# Altium schematic symbol library MCU_NXP_ColdFire.SchLib: 6 symbols
Pins are listed as number, name and electrical type; pins without a type are passive.

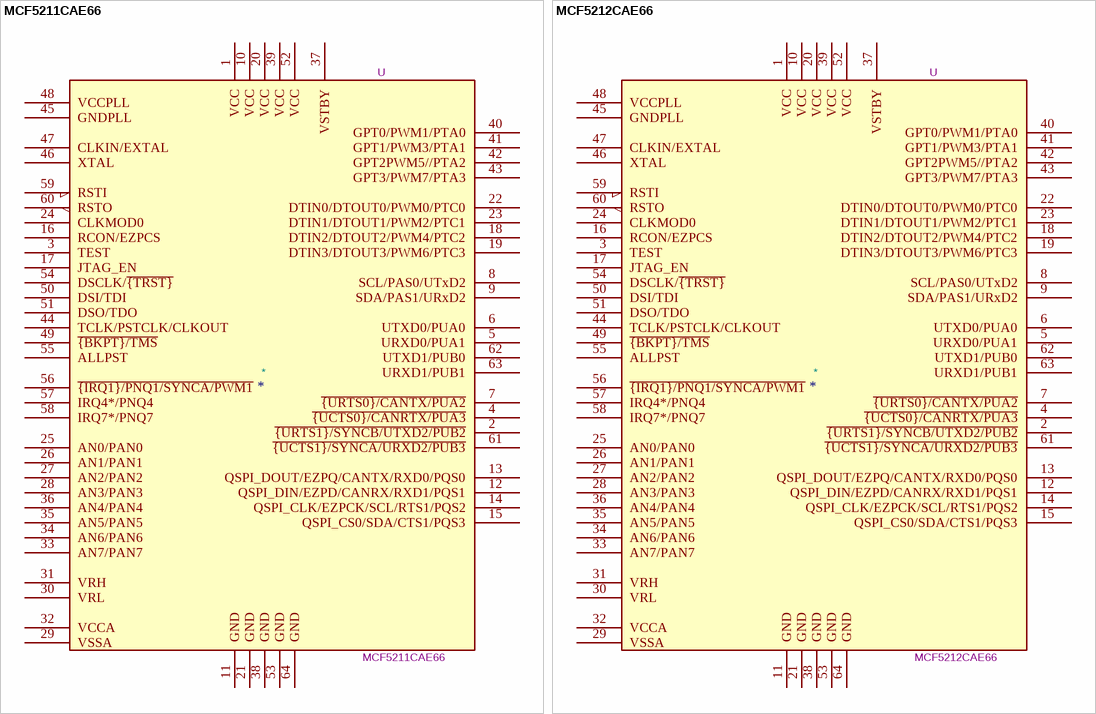
[diagram p0: symbols MCF5211CAE66 to MCF5212CAE66]

## MCF5211CAE66
designator *  value MCF5211CAE66  Reference: U
ki_keywords: MCU; ki_description: ColdFire Microcontroller, LQFP64; ki_fp_filters: LQFP*10x10mm*P0.5mm*; Footprint: Package_QFP:LQFP-64_10x10mm_P0.5mm; Datasheet: https://www.nxp.com/docs/en/data-sheet/MCF5213EC.pdf
pins: 1 VCC, 2 ~{{URTS1}/SYNCB/UTXD2/PUB2}, 3 TEST, 4 ~{{UCTS0}/CANRTX/PUA3}, 5 URXD0/PUA1, 6 UTXD0/PUA0, 7 ~{{URTS0}/CANTX/PUA2}, 8 SCL/PAS0/UTxD2, 9 SDA/PAS1/URxD2, 10 VCC, 11 GND, 12 QSPI_DIN/EZPD/CANRX/RXD1/PQS1, 13 QSPI_DOUT/EZPQ/CANTX/RXD0/PQS0, 14 QSPI_CLK/EZPCK/SCL/RTS1/PQS2, 15 QSPI_CS0/SDA/CTS1/PQS3, 16 RCON/EZPCS, 17 JTAG_EN, 18 DTIN2/DTOUT2/PWM4/PTC2, 19 DTIN3/DTOUT3/PWM6/PTC3, 20 VCC, 21 GND, 22 DTIN0/DTOUT0/PWM0/PTC0, 23 DTIN1/DTOUT1/PWM2/PTC1, 24 CLKMOD0, 25 AN0/PAN0, 26 AN1/PAN1, 27 AN2/PAN2, 28 AN3/PAN3, 29 VSSA, 30 VRL, 31 VRH, 32 VCCA, 33 AN7/PAN7, 34 AN6/PAN6, 35 AN5/PAN5, 36 AN4/PAN4, 37 VSTBY, 38 GND, 39 VCC, 40 GPT0/PWM1/PTA0, 41 GPT1/PWM3/PTA1, 42 GPT2PWM5//PTA2, 43 GPT3/PWM7/PTA3, 44 TCLK/PSTCLK/CLKOUT, 45 GNDPLL, 46 XTAL, 47 CLKIN/EXTAL, 48 VCCPLL, 49 ~{{BKPT}/TMS}, 50 DSI/TDI, 51 DSO/TDO, 52 VCC, 53 GND, 54 DSCLK/~{{TRST}}, 55 ALLPST, 56 ~{{IRQ1}/PNQ1/SYNCA/PWM1}, 57 IRQ4*/PNQ4, 58 IRQ7*/PNQ7, 59 RSTI, 60 RSTO, 61 ~{{UCTS1}/SYNCA/URXD2/PUB3}, 62 UTXD1/PUB0, 63 URXD1/PUB1, 64 GND

## MCF5212CAE66
designator *  value MCF5212CAE66  Reference: U
ki_keywords: MCU; ki_description: ColdFire Microcontroller, LQFP64; ki_fp_filters: LQFP*10x10mm*P0.5mm*; Footprint: Package_QFP:LQFP-64_10x10mm_P0.5mm; Datasheet: https://www.nxp.com/docs/en/data-sheet/MCF5213EC.pdf
pins: 1 VCC, 2 ~{{URTS1}/SYNCB/UTXD2/PUB2}, 3 TEST, 4 ~{{UCTS0}/CANRTX/PUA3}, 5 URXD0/PUA1, 6 UTXD0/PUA0, 7 ~{{URTS0}/CANTX/PUA2}, 8 SCL/PAS0/UTxD2, 9 SDA/PAS1/URxD2, 10 VCC, 11 GND, 12 QSPI_DIN/EZPD/CANRX/RXD1/PQS1, 13 QSPI_DOUT/EZPQ/CANTX/RXD0/PQS0, 14 QSPI_CLK/EZPCK/SCL/RTS1/PQS2, 15 QSPI_CS0/SDA/CTS1/PQS3, 16 RCON/EZPCS, 17 JTAG_EN, 18 DTIN2/DTOUT2/PWM4/PTC2, 19 DTIN3/DTOUT3/PWM6/PTC3, 20 VCC, 21 GND, 22 DTIN0/DTOUT0/PWM0/PTC0, 23 DTIN1/DTOUT1/PWM2/PTC1, 24 CLKMOD0, 25 AN0/PAN0, 26 AN1/PAN1, 27 AN2/PAN2, 28 AN3/PAN3, 29 VSSA, 30 VRL, 31 VRH, 32 VCCA, 33 AN7/PAN7, 34 AN6/PAN6, 35 AN5/PAN5, 36 AN4/PAN4, 37 VSTBY, 38 GND, 39 VCC, 40 GPT0/PWM1/PTA0, 41 GPT1/PWM3/PTA1, 42 GPT2PWM5//PTA2, 43 GPT3/PWM7/PTA3, 44 TCLK/PSTCLK/CLKOUT, 45 GNDPLL, 46 XTAL, 47 CLKIN/EXTAL, 48 VCCPLL, 49 ~{{BKPT}/TMS}, 50 DSI/TDI, 51 DSO/TDO, 52 VCC, 53 GND, 54 DSCLK/~{{TRST}}, 55 ALLPST, 56 ~{{IRQ1}/PNQ1/SYNCA/PWM1}, 57 IRQ4*/PNQ4, 58 IRQ7*/PNQ7, 59 RSTI, 60 RSTO, 61 ~{{UCTS1}/SYNCA/URXD2/PUB3}, 62 UTXD1/PUB0, 63 URXD1/PUB1, 64 GND

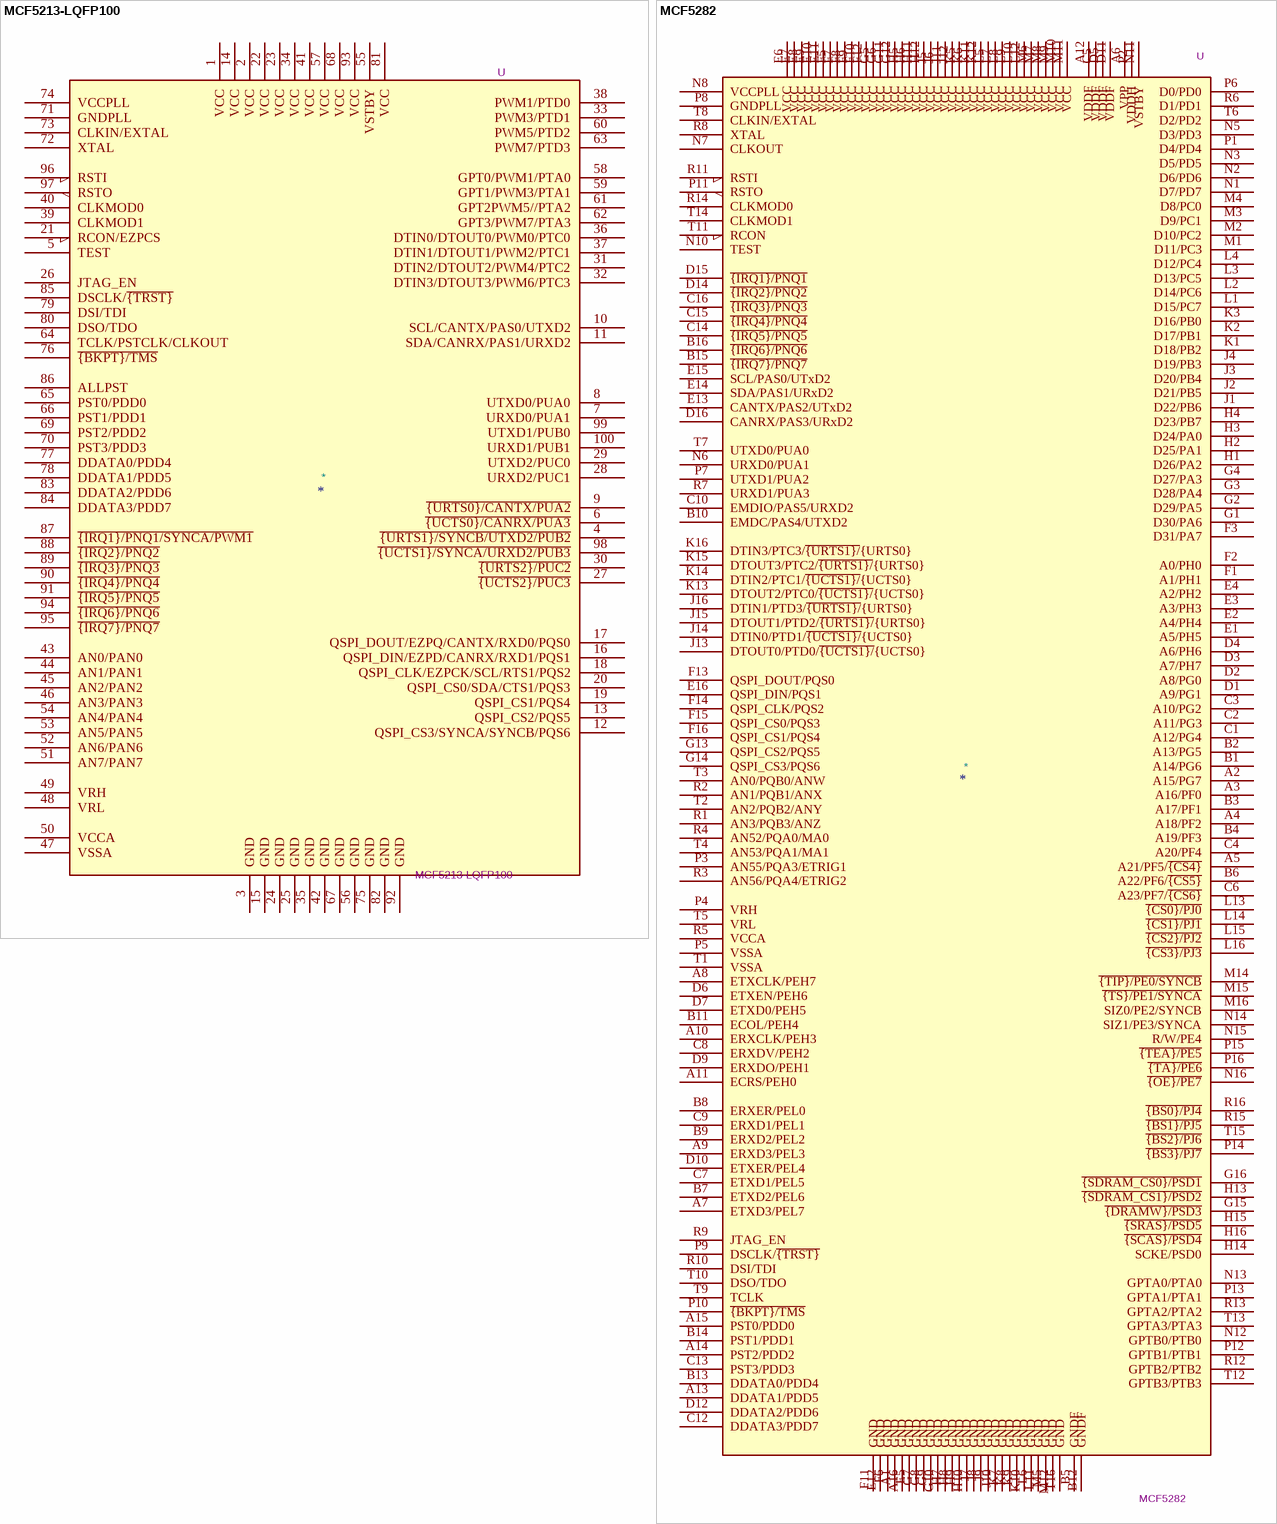
[diagram p1: symbols MCF5213-LQFP100 to MCF5282]

## MCF5213-LQFP100
designator *  value MCF5213-LQFP100  Reference: U
ki_keywords: COLDFIRE; ki_description: Coldfire with SRAM and Flash Eprom - LQFP100 package
pins: 1 VCC, 2 VCC, 3 GND, 4 ~{{URTS1}/SYNCB/UTXD2/PUB2}, 5 TEST, 6 ~{{UCTS0}/CANRX/PUA3}, 7 URXD0/PUA1, 8 UTXD0/PUA0, 9 ~{{URTS0}/CANTX/PUA2}, 10 SCL/CANTX/PAS0/UTXD2, 11 SDA/CANRX/PAS1/URXD2, 12 QSPI_CS3/SYNCA/SYNCB/PQS6, 13 QSPI_CS2/PQS5, 14 VCC, 15 GND, 16 QSPI_DIN/EZPD/CANRX/RXD1/PQS1, 17 QSPI_DOUT/EZPQ/CANTX/RXD0/PQS0, 18 QSPI_CLK/EZPCK/SCL/RTS1/PQS2, 19 QSPI_CS1/PQS4, 20 QSPI_CS0/SDA/CTS1/PQS3, 21 RCON/EZPCS, 22 VCC, 23 VCC, 24 GND, 25 GND, 26 JTAG_EN, 27 ~{{UCTS2}/PUC3}, 28 URXD2/PUC1, 29 UTXD2/PUC0, 30 ~{{URTS2}/PUC2}, 31 DTIN2/DTOUT2/PWM4/PTC2, 32 DTIN3/DTOUT3/PWM6/PTC3, 33 PWM3/PTD1, 34 VCC, 35 GND, 36 DTIN0/DTOUT0/PWM0/PTC0, 37 DTIN1/DTOUT1/PWM2/PTC1, 38 PWM1/PTD0, 39 CLKMOD1, 40 CLKMOD0, 41 VCC, 42 GND, 43 AN0/PAN0, 44 AN1/PAN1, 45 AN2/PAN2, 46 AN3/PAN3, 47 VSSA, 48 VRL, 49 VRH, 50 VCCA, 51 AN7/PAN7, 52 AN6/PAN6, 53 AN5/PAN5, 54 AN4/PAN4, 55 VSTBY, 56 GND, 57 VCC, 58 GPT0/PWM1/PTA0, 59 GPT1/PWM3/PTA1, 60 PWM5/PTD2, 61 GPT2PWM5//PTA2, 62 GPT3/PWM7/PTA3, 63 PWM7/PTD3, 64 TCLK/PSTCLK/CLKOUT, 65 PST0/PDD0, 66 PST1/PDD1, 67 GND, 68 VCC, 69 PST2/PDD2, 70 PST3/PDD3, 71 GNDPLL, 72 XTAL, 73 CLKIN/EXTAL, 74 VCCPLL, 75 GND, 76 ~{{BKPT}/TMS}, 77 DDATA0/PDD4, 78 DDATA1/PDD5, 79 DSI/TDI, 80 DSO/TDO, 81 VCC, 82 GND, 83 DDATA2/PDD6, 84 DDATA3/PDD7, 85 DSCLK/~{{TRST}}, 86 ALLPST, 87 ~{{IRQ1}/PNQ1/SYNCA/PWM1}, 88 ~{{IRQ2}/PNQ2}, 89 ~{{IRQ3}/PNQ3}, 90 ~{{IRQ4}/PNQ4}, 91 ~{{IRQ5}/PNQ5}, 92 GND, 93 VCC, 94 ~{{IRQ6}/PNQ6}, 95 ~{{IRQ7}/PNQ7}, 96 RSTI, 97 RSTO, 98 ~{{UCTS1}/SYNCA/URXD2/PUB3}, 99 UTXD1/PUB0, 100 URXD1/PUB1

## MCF5282
designator *  value MCF5282  Reference: U
ki_keywords: COLDFIRE; ki_description: Coldfire with SRAM and Flash Eprom
pins: A1 GND, A2 A15/PG7, A3 A16/PF0, A4 A18/PF2, A5 A21/PF5/~{{CS4}}, A6 VPP, A7 ETXD3/PEL7, A8 ETXCLK/PEH7, A9 ERXD3/PEL3, A10 ERXCLK/PEH3, A11 ECRS/PEH0, A12 VDDF, A13 DDATA1/PDD5, A14 PST2/PDD2, A15 PST0/PDD0, A16 GND, B1 A14/PG6, B2 A13/PG5, B3 A17/PF1, B4 A19/PF3, B5 GNDF, B6 A22/PF6/~{{CS5}}, B7 ETXD2/PEL6, B8 ERXER/PEL0, B9 ERXD2/PEL2, B10 EMDC/PAS4/UTXD2, B11 ECOL/PEH4, B12 GNDF, B13 DDATA0/PDD4, B14 PST1/PDD1, B15 ~{{IRQ7}/PNQ7}, B16 ~{{IRQ6}/PNQ6}, C1 A12/PG4, C2 A11/PG3, C3 A10/PG2, C4 A20/PF4, C5 VDDF, C6 A23/PF7/~{{CS6}}, C7 ETXD1/PEL5, C8 ERXDV/PEH2, C9 ERXD1/PEL1, C10 EMDIO/PAS5/URXD2, C12 DDATA3/PDD7, C13 PST3/PDD3, C14 ~{{IRQ5}/PNQ5}, C15 ~{{IRQ4}/PNQ4}, C16 ~{{IRQ3}/PNQ3}, D1 A9/PG1, D2 A8/PG0, D3 A7/PH7, D4 A6/PH6, D5 VDDF, D6 ETXEN/PEH6, D7 ETXD0/PEH5, D9 ERXDO/PEH1, D10 ETXER/PEL4, D11 VDDF, D12 DDATA2/PDD6, D14 ~{{IRQ2}/PNQ2}, D15 ~{{IRQ1}/PNQ1}, D16 CANRX/PAS3/URxD2, E1 A5/PH5, E2 A4/PH4, E3 A3/PH3, E4 A2/PH2, E5 GND, E6 VCC, E7 VCC, E8 VCC, E9 VCC, E10 VCC, E11 VCC, E12 GND, E13 CANTX/PAS2/UTxD2, E14 SDA/PAS1/URxD2, E15 SCL/PAS0/UTxD2, E16 QSPI_DIN/PQS1, F1 A1/PH1, F2 A0/PH0, F3 D31/PA7, F5 VCC, F6 GND, F7 VCC, F8 VCC, F9 VCC, F10 VCC, F11 GND, F12 VCC, F13 QSPI_DOUT/PQS0, F14 QSPI_CLK/PQS2, F15 QSPI_CS0/PQS3, F16 QSPI_CS1/PQS4, G1 D30/PA6, G2 D29/PA5, G3 D28/PA4, G4 D27/PA3, G5 VCC, G6 VCC, G7 GND, G8 GND, G9 GND, G10 GND, G11 VCC, G12 VCC, G13 QSPI_CS2/PQS5, G14 QSPI_CS3/PQS6, G15 ~{{DRAMW}/PSD3}, G16 ~{{SDRAM_CS0}/PSD1}, H1 D26/PA2, H2 D25/PA1, H3 D24/PA0, H4 D23/PB7, H5 VCC, H6 VCC, H7 GND, H8 GND, H9 GND, H10 GND, H11 VCC, H12 VCC, H13 ~{{SDRAM_CS1}/PSD2}, H14 SCKE/PSD0, H15 ~{{SRAS}/PSD5}, H16 ~{{SCAS}/PSD4}, J1 D22/PB6, J2 D21/PB5, J3 D20/PB4, J4 D19/PB3, J5 VCC, J6 VCC, J7 GND, J8 GND, J9 GND, J10 GND, J11 VCC, J12 VCC, J13 DTOUT0/PTD0/~{{UCTS1}/}{UCTS0}, J14 DTIN0/PTD1/~{{UCTS1}/}{UCTS0}, J15 DTOUT1/PTD2/~{{URTS1}/}{URTS0}, J16 DTIN1/PTD3/~{{URTS1}/}{URTS0}, K1 D18/PB2, K2 D17/PB1, K3 D16/PB0, K5 VCC, K6 VCC, K7 GND, K8 GND, K9 GND, K10 GND, K11 VCC, K12 VCC, K13 DTOUT2/PTC0/~{{UCTS1}/}{UCTS0}, K14 DTIN2/PTC1/~{{UCTS1}/}{UCTS0}, K15 DTOUT3/PTC2/~{{URTS1}/}{URTS0}, K16 DTIN3/PTC3/~{{URTS1}/}{URTS0}, L1 D15/PC7, L2 D14/PC6, L3 D13/PC5, L4 D12/PC4, L5 VCC, L6 GND, L7 VCC, L8 VCC, L9 VCC, L10 VCC, L11 GND, L12 VCC, L13 ~{{CS0}/PJ0}, L14 ~{{CS1}/PJ1}, L15 ~{{CS2}/PJ2}, L16 ~{{CS3}/PJ3}, M1 D11/PC3, M2 D10/PC2, M3 D9/PC1, M4 D8/PC0, M5 GND, M6 VCC, M7 VCC, M8 VCC, M9 VCC, M10 VCC, M11 VCC, M12 GND, M14 ~{{TIP}/PE0/SYNCB}, M15 ~{{TS}/PE1/SYNCA}, M16 SIZ0/PE2/SYNCB, N1 D7/PD7, N2 D6/PD6, N3 D5/PD5, N5 D3/PD3, N6 URXD0/PUA1, N7 CLKOUT, N8 VCCPLL, N10 TEST, N11 VSTBY, N12 GPTB0/PTB0, N13 GPTA0/PTA0, N14 SIZ1/PE3/SYNCA, N15 R/W/PE4, N16 ~{{OE}/PE7}, P1 D4/PD4, P2 VDDH, P3 AN55/PQA3/ETRIG1, P4 VRH, P5 VSSA, P6 D0/PD0, P7 UTXD1/PUA2, P8 GNDPLL, P9 DSCLK/~{{TRST}}, P10 ~{{BKPT}/TMS}, P11 RSTO, P12 GPTB1/PTB1, P13 GPTA1/PTA1, P14 ~{{BS3}/PJ7}, P15 ~{{TEA}/PE5}, P16 ~{{TA}/PE6}, R1 AN3/PQB3/ANZ, R2 AN1/PQB1/ANX, R3 AN56/PQA4/ETRIG2, R4 AN52/PQA0/MA0, R5 VCCA, R6 D1/PD1, R7 URXD1/PUA3, R8 XTAL, R9 JTAG_EN, R10 DSI/TDI, R11 RSTI, R12 GPTB2/PTB2, R13 GPTA2/PTA2, R14 CLKMOD0, R15 ~{{BS1}/PJ5}, R16 ~{{BS0}/PJ4}, T1 VSSA, T2 AN2/PQB2/ANY, T3 AN0/PQB0/ANW, T4 AN53/PQA1/MA1, T5 VRL, T6 D2/PD2, T7 UTXD0/PUA0, T8 CLKIN/EXTAL, T9 TCLK, T10 DSO/TDO, T11 RCON, T12 GPTB3/PTB3, T13 GPTA3/PTA3, T14 CLKMOD1, T15 ~{{BS2}/PJ6}, T16 GND

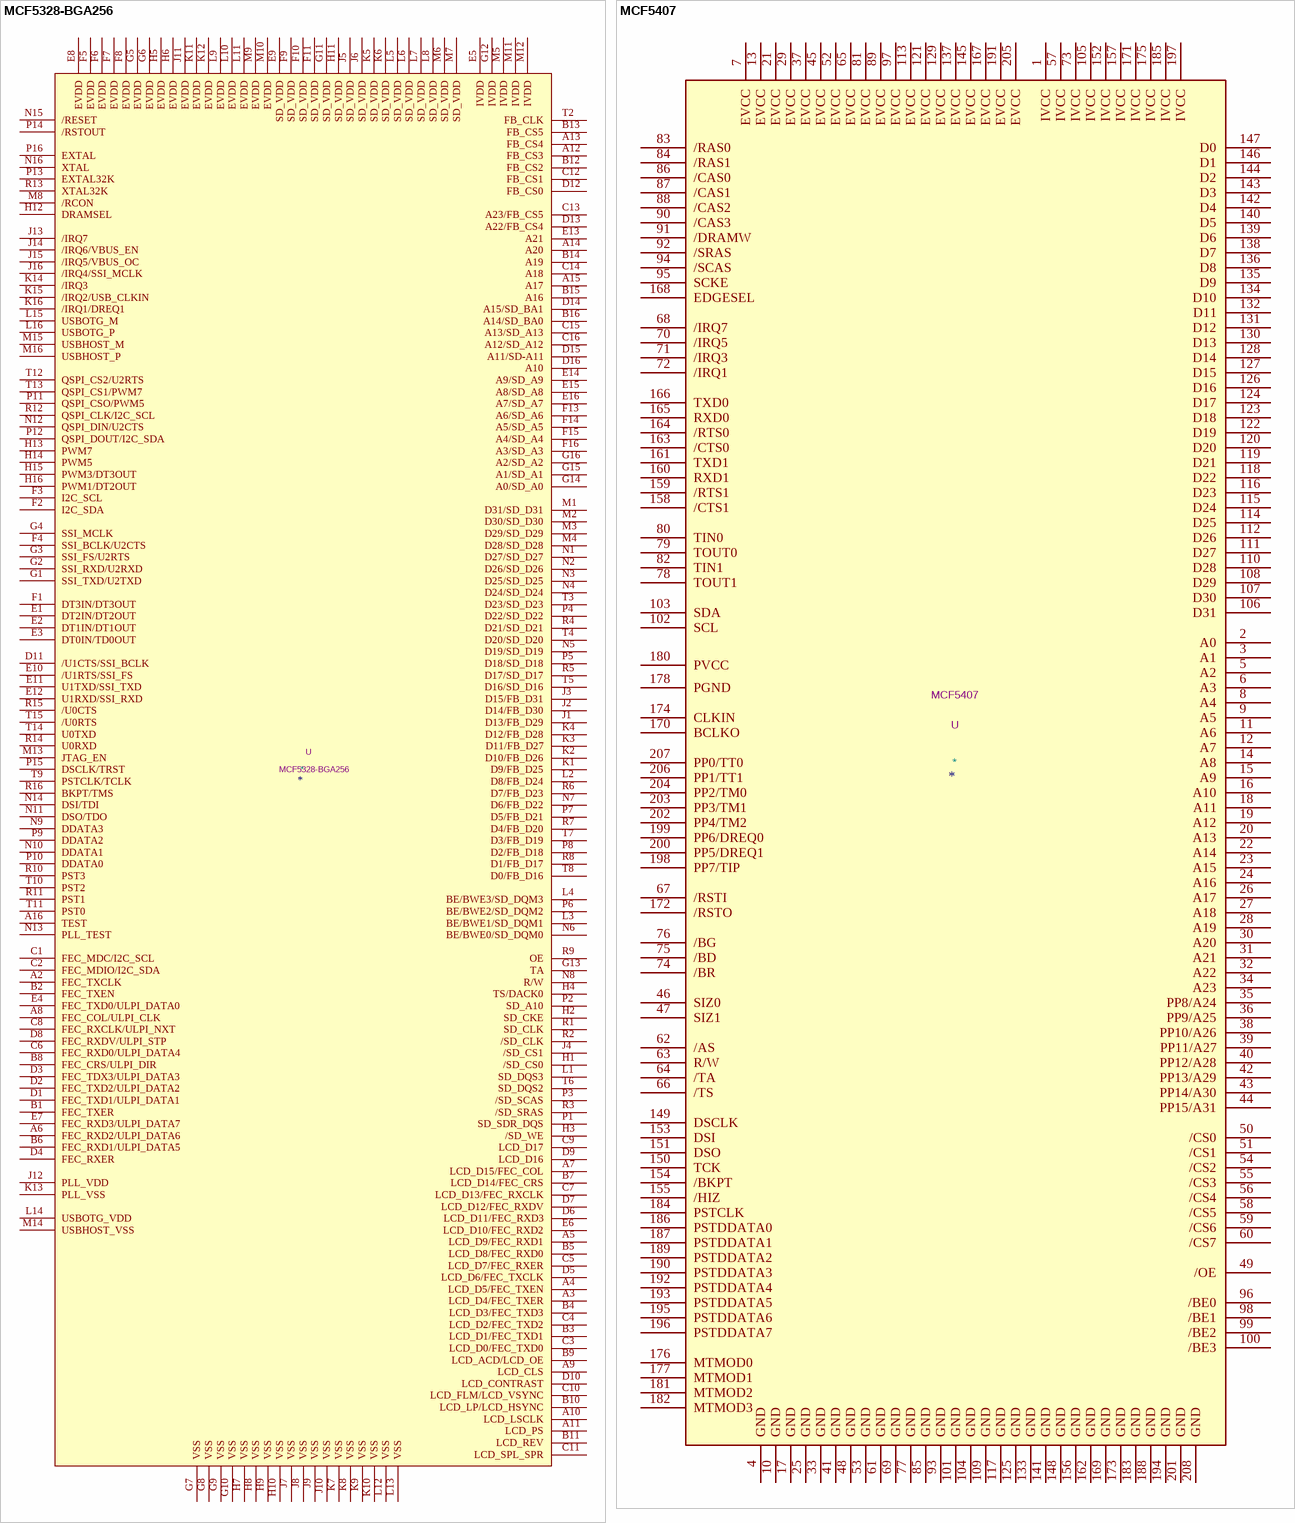
[diagram p2: symbols MCF5328-BGA256 to MCF5407]

## MCF5328-BGA256
designator *  value MCF5328-BGA256  Reference: U
pins: A2 FEC_TXCLK, A3 LCD_D4/FEC_TXER, A4 LCD_D5/FEC_TXEN, A5 LCD_D9/FEC_RXD1, A6 FEC_RXD2/ULPI_DATA6, A7 LCD_D15/FEC_COL, A8 FEC_COL/ULPI_CLK, A9 LCD_CLS, A10 LCD_LSCLK, A11 LCD_PS, A12 FB_CS3, A13 FB_CS4, A14 A20, A15 A17, A16 TEST, B1 FEC_TXER, B2 FEC_TXEN, B3 LCD_D1/FEC_TXD1, B4 LCD_D3/FEC_TXD3, B5 LCD_D8/FEC_RXD0, B6 FEC_RXD1/ULPI_DATA5, B7 LCD_D14/FEC_CRS, B8 FEC_CRS/ULPI_DIR, B9 LCD_ACD/LCD_OE, B10 LCD_LP/LCD_HSYNC, B11 LCD_REV, B12 FB_CS2, B13 FB_CS5, B14 A19, B15 A16, B16 A14/SD_BA0, C1 FEC_MDC/I2C_SCL, C2 FEC_MDIO/I2C_SDA, C3 LCD_D0/FEC_TXD0, C4 LCD_D2/FEC_TXD2, C5 LCD_D7/FEC_RXER, C6 FEC_RXD0/ULPI_DATA4, C7 LCD_D13/FEC_RXCLK, C8 FEC_RXCLK/ULPI_NXT, C9 LCD_D17, C10 LCD_FLM/LCD_VSYNC, C11 LCD_SPL_SPR, C12 FB_CS1, C13 A23/FB_CS5, C14 A18, C15 A13/SD_A13, C16 A12/SD_A12, D1 FEC_TXD1/ULPI_DATA1, D2 FEC_TXD2/ULPI_DATA2, D3 FEC_TDX3/ULPI_DATA3, D4 FEC_RXER, D5 LCD_D6/FEC_TXCLK, D6 LCD_D11/FEC_RXD3, D7 LCD_D12/FEC_RXDV, D8 FEC_RXDV/ULPI_STP, D9 LCD_D16, D10 LCD_CONTRAST, D11 /U1CTS/SSI_BCLK, D12 FB_CS0, D13 A22/FB_CS4, D14 A15/SD_BA1, D15 A11/SD-A11, D16 A10, E1 DT2IN/DT2OUT, E2 DT1IN/DT1OUT, E3 DT0IN/TD0OUT, E4 FEC_TXD0/ULPI_DATA0, E5 IVDD, E6 LCD_D10/FEC_RXD2, E7 FEC_RXD3/ULPI_DATA7, E8 EVDD, E9 SD_VDD, E10 /U1RTS/SSI_FS, E11 U1TXD/SSI_TXD, E12 U1RXD/SSI_RXD, E13 A21, E14 A9/SD_A9, E15 A8/SD_A8, E16 A7/SD_A7, F1 DT3IN/DT3OUT, F2 I2C_SDA, F3 I2C_SCL, F4 SSI_BCLK/U2CTS, F5 EVDD, F6 EVDD, F7 EVDD, F8 EVDD, F9 SD_VDD, F10 SD_VDD, F11 SD_VDD, F13 A6/SD_A6, F14 A5/SD_A5, F15 A4/SD_A4, F16 A3/SD_A3, G1 SSI_TXD/U2TXD, G2 SSI_RXD/U2RXD, G3 SSI_FS/U2RTS, G4 SSI_MCLK, G5 EVDD, G6 EVDD, G7 VSS, G8 VSS, G9 VSS, G10 VSS, G11 SD_VDD, G12 IVDD, G13 TA, G14 A0/SD_A0, G15 A1/SD_A1, G16 A2/SD_A2, H1 /SD_CS0, H2 SD_CKE, H3 /SD_WE, H4 TS/DACK0, H5 EVDD, H6 EVDD, H7 VSS, H8 VSS, H9 VSS, H10 VSS, H11 SD_VDD, H12 DRAMSEL, H13 PWM7, H14 PWM5, H15 PWM3/DT3OUT, H16 PWM1/DT2OUT, J1 D13/FB_D29, J2 D14/FB_D30, J3 D15/FB_D31, J4 /SD_CS1, J5 SD_VDD, J6 SD_VDD, J7 VSS, J8 VSS, J9 VSS, J10 VSS, J11 EVDD, J12 PLL_VDD, J13 /IRQ7, J14 /IRQ6/VBUS_EN, J15 /IRQ5/VBUS_OC, J16 /IRQ4/SSI_MCLK, K1 D9/FB_D25, K2 D10/FB_D26, K3 D11/FB_D27, K4 D12/FB_D28, K5 SD_VDD, K6 SD_VDD, K7 VSS, K8 VSS, K9 VSS, K10 VSS, K11 EVDD, K12 EVDD, K13 PLL_VSS, K14 /IRQ3, K15 /IRQ2/USB_CLKIN, K16 /IRQ1/DREQ1, L1 SD_DQS3, L2 D8/FB_D24, L3 BE/BWE1/SD_DQM1, L4 BE/BWE3/SD_DQM3, L5 SD_VDD, L6 SD_VDD, L7 SD_VDD, L8 SD_VDD, L9 EVDD, L10 EVDD, L11 EVDD, L12 VSS, L13 VSS, L14 USBOTG_VDD, L15 USBOTG_M, L16 USBOTG_P, M1 D31/SD_D31, M2 D30/SD_D30, M3 D29/SD_D29, M4 D28/SD_D28, M5 IVDD, M6 SD_VDD, M7 SD_VDD, M8 /RCON, M9 EVDD, M10 EVDD, M11 IVDD, M12 IVDD, M13 JTAG_EN, M14 USBHOST_VSS, M15 USBHOST_M, M16 USBHOST_P, N1 D27/SD_D27, N2 D26/SD_D26, N3 D25/SD_D25, N4 D24/SD_D24, N5 D19/SD_D19, N6 BE/BWE0/SD_DQM0, N7 D6/FB_D22, N8 R/W, N9 DDATA3, N10 DDATA1, N11 DSO/TDO, N12 QSPI_DIN/U2CTS, N13 PLL_TEST, N14 DSI/TDI, N15 /RESET, N16 XTAL, P1 SD_SDR_DQS, P2 SD_A10, P3 /SD_SCAS, P4 D22/SD_D22, P5 D18/SD_D18, P6 BE/BWE2/SD_DQM2, P7 D5/FB_D21, P8 D2/FB_D18, P9 DDATA2, P10 DDATA0, P11 QSPI_CSO/PWM5, P12 QSPI_DOUT/I2C_SDA, P13 EXTAL32K, P14 /RSTOUT, P15 DSCLK/TRST, P16 EXTAL, R1 SD_CLK, R2 /SD_CLK, R3 /SD_SRAS, R4 D21/SD_D21, R5 D17/SD_D17, R6 D7/FB_D23, R7 D4/FB_D20, R8 D1/FB_D17, R9 OE, R10 PST3, R11 PST1, R12 QSPI_CLK/I2C_SCL, R13 XTAL32K, R14 U0RXD, R15 /U0CTS, R16 BKPT/TMS, T2 FB_CLK, T3 D23/SD_D23, T4 D20/SD_D20, T5 D16/SD_D16, T6 SD_DQS2, T7 D3/FB_D19, T8 D0/FB_D16, T9 PSTCLK/TCLK, T10 PST2, T11 PST0, T12 QSPI_CS2/U2RTS, T13 QSPI_CS1/PWM7, T14 U0TXD, T15 /U0RTS

## MCF5407
designator *  value MCF5407  Reference: U
ki_keywords: COLDFIRE; ki_description: Coldfire CPU
pins: 1 IVCC, 2 A0, 3 A1, 4 GND, 5 A2, 6 A3, 7 EVCC, 8 A4, 9 A5, 10 GND, 11 A6, 12 A7, 13 EVCC, 14 A8, 15 A9, 16 A10, 17 GND, 18 A11, 19 A12, 20 A13, 21 EVCC, 22 A14, 23 A15, 24 A16, 25 GND, 26 A17, 27 A18, 28 A19, 29 EVCC, 30 A20, 31 A21, 32 A22, 33 GND, 34 A23, 35 PP8/A24, 36 PP9/A25, 37 EVCC, 38 PP10/A26, 39 PP11/A27, 40 PP12/A28, 41 GND, 42 PP13/A29, 43 PP14/A30, 44 PP15/A31, 45 EVCC, 46 SIZ0, 47 SIZ1, 48 GND, 49 /OE, 50 /CS0, 51 /CS1, 52 EVCC, 53 GND, 54 /CS2, 55 /CS3, 56 /CS4, 57 IVCC, 58 /CS5, 59 /CS6, 60 /CS7, 61 GND, 62 /AS, 63 R/W, 64 /TA, 65 EVCC, 66 /TS, 67 /RSTI, 68 /IRQ7, 69 GND, 70 /IRQ5, 71 /IRQ3, 72 /IRQ1, 73 IVCC, 74 /BR, 75 /BD, 76 /BG, 77 GND, 78 TOUT1, 79 TOUT0, 80 TIN0, 81 EVCC, 82 TIN1, 83 /RAS0, 84 /RAS1, 85 GND, 86 /CAS0, 87 /CAS1, 88 /CAS2, 89 EVCC, 90 /CAS3, 91 /DRAMW, 92 /SRAS, 93 GND, 94 /SCAS, 95 SCKE, 96 /BE0, 97 EVCC, 98 /BE1, 99 /BE2, 100 /BE3, 101 GND, 102 SCL, 103 SDA, 104 GND, 105 IVCC, 106 D31, 107 D30, 108 D29, 109 GND, 110 D28, 111 D27, 112 D26, 113 EVCC, 114 D25, 115 D24, 116 D23, 117 GND, 118 D22, 119 D21, 120 D20, 121 EVCC, 122 D19, 123 D18, 124 D17, 125 GND, 126 D16, 127 D15, 128 D14, 129 EVCC, 130 D13, 131 D12, 132 D11, 133 GND, 134 D10, 135 D9, 136 D8, 137 EVCC, 138 D7, 139 D6, 140 D5, 141 GND, 142 D4, 143 D3, 144 D2, 145 EVCC, 146 D1, 147 D0, 148 GND, 149 DSCLK, 150 TCK, 151 DSO, 152 IVCC, 153 DSI, 154 /BKPT, 155 /HIZ, 156 GND, 157 IVCC, 158 /CTS1, 159 /RTS1, 160 RXD1, 161 TXD1, 162 GND, 163 /CTS0, 164 /RTS0, 165 RXD0, 166 TXD0, 167 EVCC, 168 EDGESEL, 169 GND, 170 BCLKO, 171 IVCC, 172 /RSTO, 173 GND, 174 CLKIN, 175 IVCC, 176 MTMOD0, 177 MTMOD1, 178 PGND, 180 PVCC, 181 MTMOD2, 182 MTMOD3, 183 GND, 184 PSTCLK, 185 IVCC, 186 PSTDDATA0, 187 PSTDDATA1, 188 GND, 189 PSTDDATA2, 190 PSTDDATA3, 191 EVCC, 192 PSTDDATA4, 193 PSTDDATA5, 194 GND, 195 PSTDDATA6, 196 PSTDDATA7, 197 IVCC, 198 PP7/TIP, 199 PP6/DREQ0, 200 PP5/DREQ1, 201 GND, 202 PP4/TM2, 203 PP3/TM1, 204 PP2/TM0, 205 EVCC, 206 PP1/TT1, 207 PP0/TT0, 208 GND